# Altium footprint library Generator_monostabilny.PcbLib: 7 footprints
Each footprint in its own frame and in the unit in brackets; x right, y up, seen from the top. Pads: shape width x height; smd on the part's side, far side on the other; paste and mask are expansions set on the pad; w line width, h text height; cw(c..) or ccw(c..) is an arc to the next point about the centre after c.
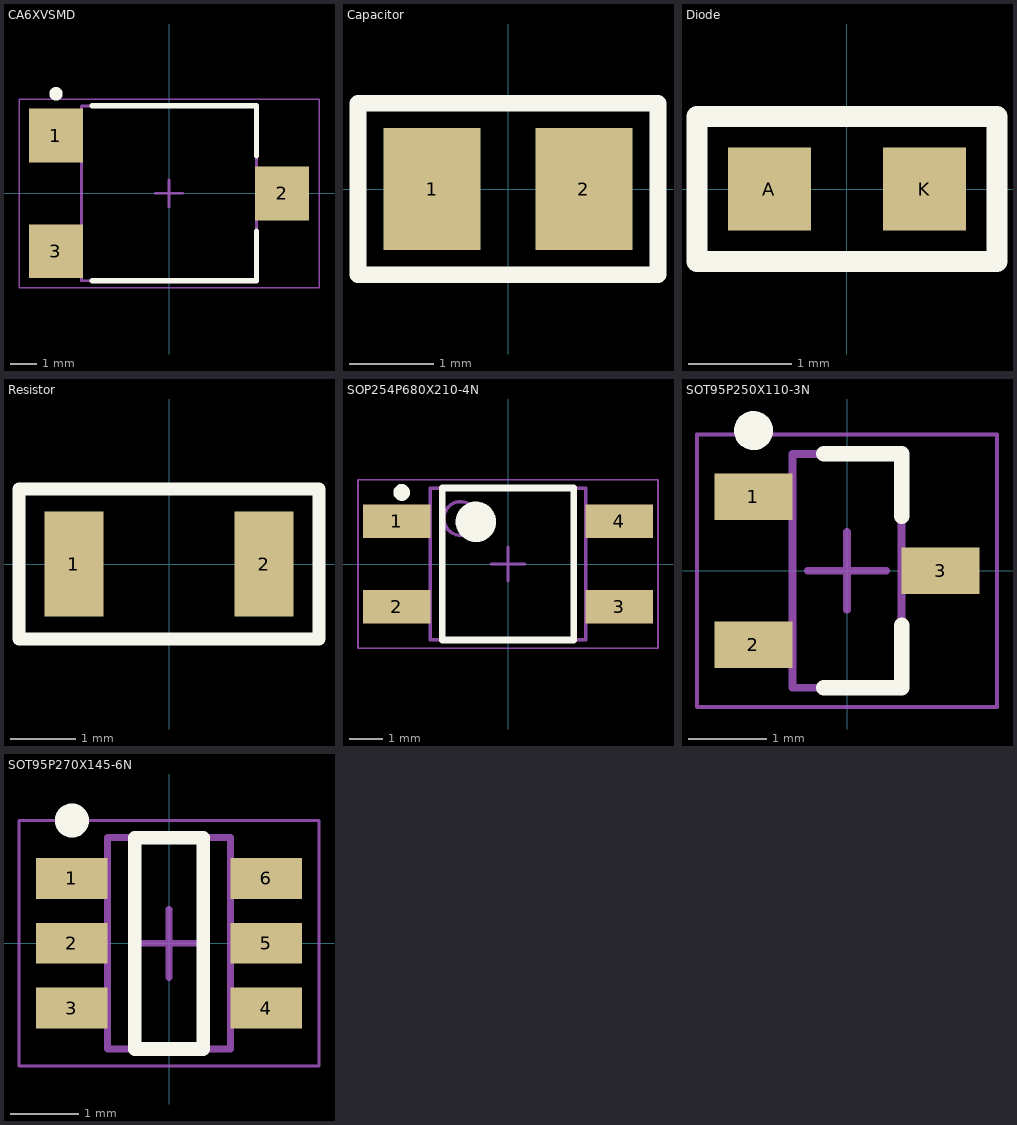
[diagram p0: the footprints below, top view; thin cyan lines are the x and y axes]

## CA6XVSMD [mm] "SOT23, 3-Leads, Body 6,45x9,80mm, Pitch 2,15mm, IPC Medium Density"
height 4.2
pads (3):
  rect 2x2 smd: 1(-4.2,2.15) 2(4.2,0) 3(-4.2,-2.15)
Top Overlay:
  circle w0.25: c-4.2,3.7 r0.125
  lines w0.2: -2.85,-3.25 3.25,-3.25 3.25,-1.4 ; -2.85,3.25 3.25,3.25 3.25,1.4
Mechanical 13:
  lines w0.1: -3.25,-3.25 3.25,-3.25 3.25,3.25 -3.25,3.25 -3.25,-3.25
Mechanical 15:
  lines w0.05: -5.575,-3.5 5.575,-3.5 5.575,3.5 -5.575,3.5 -5.575,-3.5
  lines w0.1: -0.5,0 0.5,0 ; 0,-0.5 0,0.5
3D body "User Library-CA6V-SMD.step": height 3.92, standoff 0.01, extent -4.775,-3.302 4.775,3.198

## Capacitor [mm]
pads (2):
  rect 1.15x1.45 smd: 1(-0.9,0) 2(0.9,0)
Top Overlay:
  lines w0.2: -1.778,-1.016 1.778,-1.016 1.778,1.016 -1.778,1.016 -1.778,-1.016
3D body "User Library-C0805-2.step": height 0.79, standoff -0.01, extent -1,-0.625 1,0.625

## Diode [mm]
pads (2):
  rect 0.8x0.8 smd: A(-0.75,0) K(0.75,0)
Top Overlay:
  lines w0.2: -1.45,-0.7 -1.45,0 -1.45,0.7 1.45,0.7 1.45,-0.7 -1.45,-0.7
3D body "User Library-LED SMD0603.step": height 0.68, standoff 0, extent -0.825,-0.344 0.825,0.381

## Resistor [mm]
pads (2):
  rect 0.9x1.6 smd: 1(-1.45,0) 2(1.45,0)
Top Overlay:
  lines w0.2: -2.286,-1.143 2.286,-1.143 2.286,1.143 -2.286,1.143 -2.286,-1.143
3D body "User Library-CR3216-1206.step": height 0.6, standoff 0, extent -1.6,-0.8 1.6,0.8

## SOP254P680X210-4N [mm] "SOP, 4-Leads, Body 4,30x4,40mm, Pitch 2,54mm, IPC Medium Density"
height 2.1
pads (4):
  rect 2x1 smd: 1(-3.302,1.27) 2(-3.302,-1.27) 3(3.302,-1.27) 4(3.302,1.27)
Top Overlay:
  circle w0.25: c-3.15,2.12 r0.125
  circle w0.6: c-0.95,1.25 r0.3
  lines w0.2: -1.95,-2.25 -1.95,2.25 1.95,2.25 1.95,-2.25 -1.95,-2.25
Mechanical 13:
  circle w0.1: c-1.4,1.35 r0.5
  lines w0.1: -2.3,-2.25 -2.3,2.25 2.3,2.25 2.3,-2.25 -2.3,-2.25
Mechanical 15:
  lines w0.05: -4.445,-2.5 -4.445,2.5 4.445,2.5 4.445,-2.5 -4.445,-2.5
  lines w0.1: -0.5,0 0.5,0 ; 0,-0.5 0,0.5
3D body "User Library-AQY280S.step": height 2.1, standoff 0, extent -3.4,-2.15 3.4,2.15

## SOT95P250X110-3N [mm] "SOT23, 3-Leads, Body 2,90x2,50mm, Pitch 0,95mm, IPC Medium Density"
height 1.1
pads (3):
  rect 1x0.6 smd: 1(-1.2,0.95) 2(-1.2,-0.95) 3(1.2,0)
Top Overlay:
  circle w0.25: c-1.2,1.8 r0.125
  lines w0.2: -0.3,-1.5 0.7,-1.5 0.7,-0.7 ; -0.3,1.5 0.7,1.5 0.7,0.7
Mechanical 13:
  lines w0.1: -0.7,-1.5 0.7,-1.5 0.7,1.5 -0.7,1.5 -0.7,-1.5
Mechanical 15:
  lines w0.05: -1.925,-1.75 1.925,-1.75 1.925,1.75 -1.925,1.75 -1.925,-1.75
  lines w0.1: -0.5,0 0.5,0 ; 0,-0.5 0,0.5
3D body "CircuitWorks-SOT-23.step": height 1.09, standoff -0.01, extent -1.25,-1.5 1.25,1.5

## SOT95P270X145-6N [mm] "SOT23, 6-Leads, Body 2,90x2,70mm, Pitch 0,95mm, IPC Medium Density"
height 1.45
pads (6):
  rect 1.05x0.6 smd: 1(-1.425,0.95) 2(-1.425,0) 3(-1.425,-0.95) 4(1.425,-0.95) 5(1.425,0) 6(1.425,0.95)
Top Overlay:
  circle w0.25: c-1.425,1.8 r0.125
  lines w0.2: -0.5,-1.55 -0.5,1.55 0.5,1.55 0.5,-1.55 -0.5,-1.55
Mechanical 13:
  lines w0.1: -0.9,-1.55 0.9,-1.55 0.9,1.55 -0.9,1.55 -0.9,-1.55
Mechanical 15:
  lines w0.05: -2.2,-1.8 2.2,-1.8 2.2,1.8 -2.2,1.8 -2.2,-1.8
  lines w0.1: -0.5,0 0.5,0 ; 0,-0.5 0,0.5
3D body "User Library-SOT-23-6.step": height 1.09, standoff 0, extent -1.213,-1.397 1.213,1.397